# Altium schematic symbol library ChipResistors-2512-E24.SchLib: 1 symbol
Pins are listed as number, name and electrical type; pins without a type are passive.

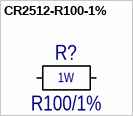
[diagram p0: symbol CR2512-R100-1%]

## CR2512-R100-1%
designator R?  value R100/1%  (hidden comment: *)
Film resistor SMD 2512
footprint SMD_RES_2512-L6300-W3200-H650-R100 (Film Chip Resistor 2512, Height: 0.65mm)
pins: 1, 2
text: 1W